# Altium schematic symbol library Misc LED.SchLib: 11 symbols
Pins are listed as number, name and electrical type; pins without a type are passive.

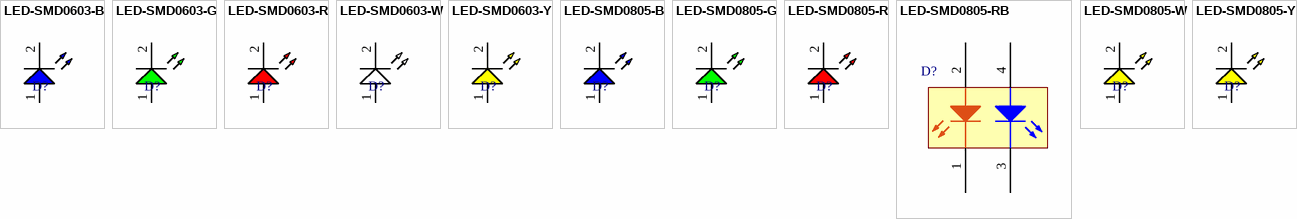
[diagram p0: symbols LED-SMD0603-B to LED-SMD0805-Y]

## LED-SMD0603-B
designator D?  (value not drawn)
Single Color LED Indication, 0603, Blue; Manufacturer: *; ComponentLink1Description: Digi-Key; ComponentLink1URL: *; Package: 0603; PackageDescription: Chip Diode; Body 1.6 x 0.8 mm (LxW typ); PartNumber: *; Published: 21-Apr-2019; Publisher: Wentao SUN; Supplier 1: Digi-Key; Supplier Part Number 1: *
footprint CD1608-0603 (Chip Diode; Body 1.6 x 0.8 mm (LxW typ))
pins: 1 RA, 2 RK

## LED-SMD0603-G
designator D?  (value not drawn)
Single Color LED Indication, 0603, Green; Manufacturer: *; ComponentLink1Description: Digi-Key; ComponentLink1URL: *; Package: 0603; PackageDescription: Chip Diode; Body 1.6 x 0.8 mm (LxW typ); PartNumber: *; Published: 21-Apr-2019; Publisher: Wentao SUN; Supplier 1: Digi-Key; Supplier Part Number 1: *
footprint CD1608-0603 (Chip Diode; Body 1.6 x 0.8 mm (LxW typ))
pins: 1 RA, 2 RK

## LED-SMD0603-R
designator D?  (value not drawn)
Single Color LED Indication, 0603, Red; Manufacturer: *; ComponentLink1Description: Digi-Key; ComponentLink1URL: *; Package: 0603; PackageDescription: Chip Diode; Body 1.6 x 0.8 mm (LxW typ); PartNumber: *; Published: 21-Apr-2019; Publisher: Wentao SUN; Supplier 1: Digi-Key; Supplier Part Number 1: *
footprint CD1608-0603 (Chip Diode; Body 1.6 x 0.8 mm (LxW typ))
pins: 1 RA, 2 RK

## LED-SMD0603-W
designator D?  (value not drawn)
Single Color LED Indication, 0603, White; Manufacturer: *; ComponentLink1Description: Digi-Key; ComponentLink1URL: *; Package: 0603; PackageDescription: Chip Diode; Body 1.6 x 0.8 mm (LxW typ); PartNumber: *; Published: 21-Apr-2019; Publisher: Wentao SUN; Supplier 1: Digi-Key; Supplier Part Number 1: *
footprint CD1608-0603 (Chip Diode; Body 1.6 x 0.8 mm (LxW typ))
pins: 1 RA, 2 RK

## LED-SMD0603-Y
designator D?  (value not drawn)
Single Color LED Indication, 0603, Yellow; Manufacturer: *; ComponentLink1Description: Digi-Key; ComponentLink1URL: *; Package: 0603; PackageDescription: Chip Diode; Body 1.6 x 0.8 mm (LxW typ); PartNumber: *; Published: 21-Apr-2019; Publisher: Wentao SUN; Supplier 1: Digi-Key; Supplier Part Number 1: *
footprint CD1608-0603 (Chip Diode; Body 1.6 x 0.8 mm (LxW typ))
pins: 1 RA, 2 RK

## LED-SMD0805-B
designator D?  (value not drawn)
Single Color LED Indication, 0805, Blue; Manufacturer: *; ComponentLink1Description: Digi-Key; ComponentLink1URL: *; Package: 0805; PackageDescription: Chip Diode; Body 2.0 x 1.3 mm (LxW typ); PartNumber: *; Published: 21-Apr-2019; Publisher: Wentao SUN; Supplier 1: Digi-Key; Supplier Part Number 1: *
footprint CD2012-0805 (Chip Diode; Body 2.0 x 1.3 mm (LxW typ))
pins: 1 RA, 2 RK

## LED-SMD0805-G
designator D?  (value not drawn)
Single Color LED Indication, 0805, Green; Manufacturer: *; ComponentLink1Description: Digi-Key; ComponentLink1URL: *; Package: 0805; PackageDescription: Chip Diode; Body 2.0 x 1.3 mm (LxW typ); PartNumber: *; Published: 21-Apr-2019; Publisher: Wentao SUN; Supplier 1: Digi-Key; Supplier Part Number 1: *
footprint CD2012-0805 (Chip Diode; Body 2.0 x 1.3 mm (LxW typ))
pins: 1 RA, 2 RK

## LED-SMD0805-R
designator D?  (value not drawn)
Single Color LED Indication, 0805, Red; Manufacturer: *; ComponentLink1Description: Digi-Key; ComponentLink1URL: *; Package: 0805; PackageDescription: Chip Diode; Body 2.0 x 1.3 mm (LxW typ); PartNumber: *; Published: 21-Apr-2019; Publisher: Wentao SUN; Supplier 1: Digi-Key; Supplier Part Number 1: *
footprint CD2012-0805 (Chip Diode; Body 2.0 x 1.3 mm (LxW typ))
pins: 1 RA, 2 RK

## LED-SMD0805-RB
designator D?
Blue, Red 465nm Blue, 630nm Red LED Indication - Discrete 3.3V Blue, 1.95V Red 0805 (2012 Metric); Manufacturer: GUANGSHENG（深圳市光盛电子有限公司）; PartNumber: TBD; Package: DLED0805; PackageDescription: Dual Color LED, Body Szie 2.00*1.25mm, 4 Leads; Supplier 1: GUANGSHENG（深圳市光盛电子有限公司）; Supplier Part Number 1: NA
footprint DLED-SMD0805 (Dual color LED, 4-Leads, Body 2.00x1.25mm, IPC Medium Density)
pins: 1 RK, 2 RA, 3 BK, 4 BA

## LED-SMD0805-W
designator D?  (value not drawn)
Single Color LED Indication, 0805, White; Manufacturer: *; ComponentLink1Description: Digi-Key; ComponentLink1URL: *; Package: 0805; PackageDescription: Chip Diode; Body 2.0 x 1.3 mm (LxW typ); PartNumber: *; Published: 21-Apr-2019; Publisher: Wentao SUN; Supplier 1: Digi-Key; Supplier Part Number 1: *
footprint CD2012-0805 (Chip Diode; Body 2.0 x 1.3 mm (LxW typ))
pins: 1 RA, 2 RK

## LED-SMD0805-Y
designator D?  (value not drawn)
Single Color LED Indication, 0805, Yellow; Manufacturer: *; ComponentLink1Description: Digi-Key; ComponentLink1URL: *; Package: 0805; PackageDescription: Chip Diode; Body 2.0 x 1.3 mm (LxW typ); PartNumber: *; Published: 21-Apr-2019; Publisher: Wentao SUN; Supplier 1: Digi-Key; Supplier Part Number 1: *
footprint CD2012-0805 (Chip Diode; Body 2.0 x 1.3 mm (LxW typ))
pins: 1 RA, 2 RK